# Altium schematic symbol library lcd_ex.SchLib: 3 symbols
Pins are listed as number, name and electrical type; pins without a type are passive.

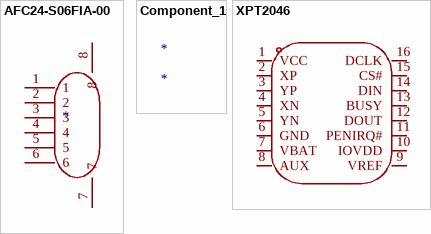
[diagram p0: symbols AFC24-S06FIA-00 to XPT2046]

## AFC24-S06FIA-00
designator FPC??
Symbol: AFC24-S06FIA-00
pins: 1, 2, 3, 4, 5, 6, 7, 8

## Component_1
designator *

## XPT2046
designator U??  (value not drawn)
Manufacturer: XPT(矽普特); Add into BOM: yes; Symbol: XPT2046; Device: XPT2046; LCSC Part Name: XPT2046; Supplier Part: C19076; Manufacturer Part: XPT2046; Supplier Footprint: TSSOP-16; JLCPCB Part Class: Extended Part; Datasheet: https://item.szlcsc.com/datasheet/XPT2046/19779.html; Supplier: LCSC; Convert to PCB: yes; Touch Screen Type: -; Interface: -
footprint TSSOP-16_L5.0-W4.4-P0.65-LS6.4-BL
3D model TSSOP-16_L5.0-W4.4-H1.0-LS6.4-P0.65
pins: 1 VCC, 2 XP, 3 YP, 4 XN, 5 YN, 6 GND, 7 VBAT, 8 AUX, 9 VREF, 10 IOVDD, 11 PENIRQ#, 12 DOUT, 13 BUSY, 14 DIN, 15 CS#, 16 DCLK